# EAGLE library part M12_URCK_WFSD_8 (library VIPR_Components)
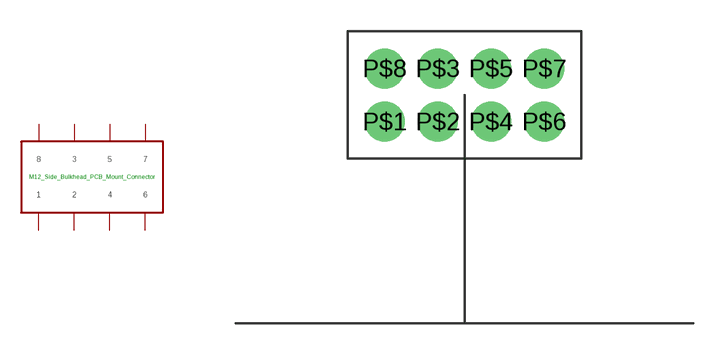
[diagram p6: symbol with the pads of M12_TURCK_WFSD_8-PCBH; footprint M12_TURCK_WFSD_8-PCBH]

Designator prefix -

## M12_URCK_WFSD_8  [M12_TURCK_WFSD_8-PCBH]
P$1  P$1
P$2  P$2
P$3  P$3
P$4  P$4
P$5  P$5
P$6  P$6
P$7  P$7
P$8  P$8

## Footprint M12_TURCK_WFSD_8-PCBH (pad centres in mm)
drill 1.27: P$1 -3.81,-1.27; P$2 -1.27,-1.27; P$3 -1.27,1.27; P$4 1.27,-1.27; P$5 1.27,1.27; P$6 3.81,-1.27; P$7 3.81,1.27; P$8 -3.81,1.27